# Altium schematic symbol library AG.Discrete.SchLib: 15 symbols
Pins are listed as number, name and electrical type; pins without a type are passive.

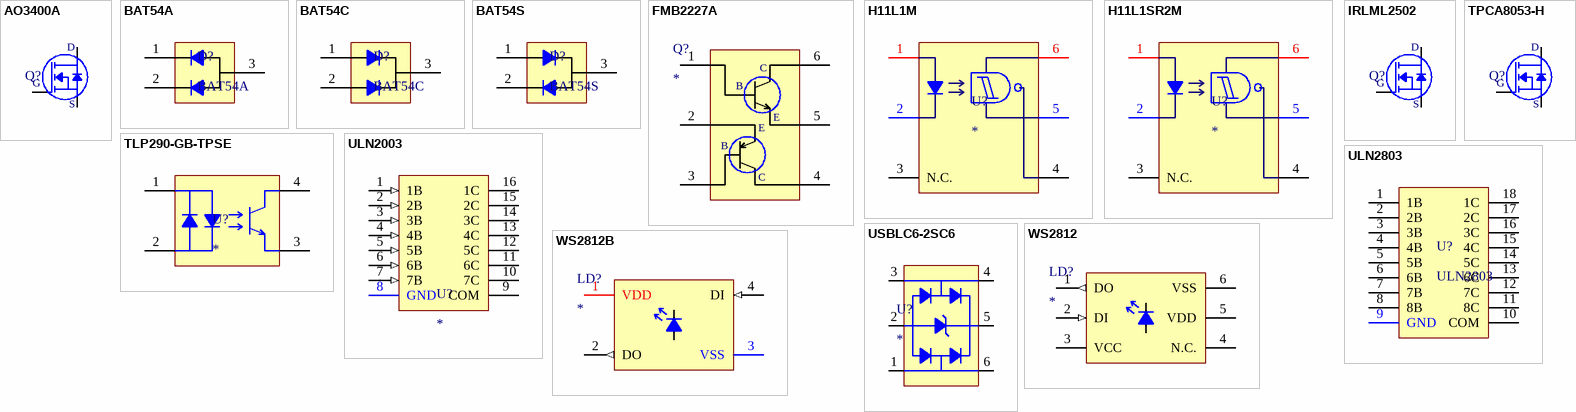
[diagram p0: symbols AO3400A to WS2812B]

## AO3400A
designator Q?
MOSFET N-CH 30V 5.7A SOT23-3L; Manufacturer: Alpha & Omega; Manufacturer Part No: AO3400A; Supplier: AliExpress; Supplier Link: https://aliexpress.ru/item/1626916488.html; Supplier Part No: 1626916488; Mounting Technology: SMT; Package: SOT-23-3L
footprint IRLML_SOT-23 (Infineon's IRLML Series Logic-Level Transistor SOT-23)
pins: 1 G, 2 S, 3 D
1 alternate drawing of the same symbol

## BAT54A
designator D?
DIODE ARRAY SCHOTTKY COMM ANODE 30V 0.2A SOT-23; PartNo: BAT54A-FDICT-ND; Manufacturer: Diodes Incorporated; DiodeConfiguration: 1 Pair Common Anode; ProductNumber: BAT54A-7-F; BaseProduct: BAT54A; Supplier: DigiKey; URL: https://www.digikey.com/en/products/detail/diodes-incorporated/BAT54A-7-F/815045; MountingTechnology: SMT; UnitPrice: $0.18; Package: SOT-23-3
footprint IRLML_SOT-23 (Infineon's IRLML Series Logic-Level Transistor SOT-23)
pins: 1 A1, 2 A2, 3 C

## BAT54C
designator D?
DIODE ARRAY SCHOTTKY COMM CATH 30V 0.2A SOT-23; PartNo: BAT54C-FDICT-ND; Manufacturer: Diodes Incorporated; DiodeConfiguration: 1 Pair Common Cathode; ProductNumber: BAT54C-7-F; BaseProduct: BAT54C; Supplier: DigiKey; URL: https://www.digikey.com/en/products/detail/diodes-incorporated/BAT54C-7-F/717701; MountingTechnology: SMT; UnitPrice: $0.18; Package: SOT-23-3
footprint IRLML_SOT-23 (Infineon's IRLML Series Logic-Level Transistor SOT-23)
pins: 1 A1, 2 A2, 3 C

## BAT54S
designator D?
DIODE ARRAY SCHOTTKY SERIES 30V 0.2A SOT-23; Manufacturer: Diodes Incorporated; DiodeConfiguration: 1 Pair Series; BaseProduct: BAT54S; Supplier: DigiKey; MountingTechnology: SMT; UnitPrice: $0.18; Package: SOT-23-3
footprint IRLML_SOT-23 (Infineon's IRLML Series Logic-Level Transistor SOT-23)
pins: 1 A1, 2 A2, 3 C
1 alternate drawing of the same symbol

## FMB2227A
designator Q?
TRANS NPN/PNP 30V 0.5A 6SSOT; Manufacturer: ON Semiconductor; Collector Current: 500mA; DC Current Gain: 30; Supplier: DigiKey; Supplier Link: https://www.digikey.com/en/products/detail/on-semiconductor/FMB2227A/1049255; Supplier Part No: FMB2227ACT-ND; Package: SOT-23-6 Thin; Mounting Technology: SMT; Collector-Emitter Breakdown Voltage: 30V
pins: 1 Base, 1, 2 Emmiter, 2, 3 Base, 3, 4 Collector, 4, 5 Emmiter, 5, 6 Collector, 6
text: C; B; E

## H11L1M
designator U?
OPTOISO 4.17KV OPN COLL 6DIP; Manufacturer: ON Semiconductor (Fairchild); Manufacturer Product Number: H11L1M; Base Product: H11L; Supplier URL: https://www.digikey.com/en/products/detail/on-semiconductor/H11L1M/284866; Supplier Unit Price: $0.90; Supplier Part No: H11L1-MQT-ND; Operating Temperature: -40°C ~ 85°C; Mounting Type: SMT; Package: DIP-6; Supplier Package: Tube
pins: 1 A, 2 C, 3 N.C., 4 OUT, 5 GND (power), 6 VCC (power)

## H11L1SR2M
designator U?
OPTOISO 4.17KV OPN COLL SMD-6; Manufacturer: ON Semiconductor; Manufacturer Part No: H11L1SR2M; Supplier URL: https://www.digikey.com/en/products/detail/on-semiconductor/H11L1SR2M/458856; Supplier Part No: H11L1SR2MCT-ND; Mounting Type: SMT; Package: SMD-6; Supplier: DigiKey; Alternative Supplier: Chipdip; Alternative Supplier Link: https://www.chipdip.by/product/h11l1sr2m; Alternative Supplier Part No: 753715628
footprint H11L1SR2M_SMD-6 (SMD-6 OPTOISO)
pins: 1 A, 2 C, 3 N.C., 4 OUT, 5 GND (power), 6 VCC (power)

## IRLML2502
designator Q?
MOSFET N-CH 20V 4.2A SOT23; Manufacturer: Infineon; Manufacturer Part No: IRLML2502TRPBF; Supplier: DigiKey; Supplier Link: https://www.digikey.com/en/products/detail/infineon-technologies/IRLML2502TRPBF/811439; Supplier Part No: IRLML2502TRPBFCT-ND; Mounting Technology: SMT; Package: SOT-23; Alternative Supplier: Chipdip; Alternative Supplier Part No: 517112745; Alternative Supplier Link: https://www.chipdip.by/product/irlml2502tr
footprint IRLML_SOT-23 (Infineon's IRLML Series Logic-Level Transistor SOT-23)
pins: 1 G, 2 S, 3 D
1 alternate drawing of the same symbol

## TLP290-GB-TPSE
designator U?
OPTOISOLATOR 3.75KV TRANS 4-SO; URL: https://www.digikey.co.uk/product-detail/en/toshiba-semiconductor-and-storage/TLP290-GB-TPSE/TLP290-GB-TPSECT-ND/4562941; MountingTechnology: SMT
footprint SO-4-SOIC127P600-8N (SO-4 Footprint for TLP290)
pins: 1, 2, 3, 4

## TPCA8053-H
designator Q?
MOSFET N-CH 60V 15A; Manufacturer: Toshiba; Manufacturer Part No: *; Supplier: *; Supplier Link: *; Supplier Part No: *; Mounting Technology: SMT; Package: SO-8FL; Alternative Supplier: *; Alternative Supplier Part No: *; Alternative Supplier Link: *; Datasheet Link: http://www.farnell.com/datasheets/1339268.pdf
footprint DFN-8 (DFN 8 Leads 5x6mm Reflow)
pins: 1 G, 2 S, 3 D
1 alternate drawing of the same symbol

## ULN2003
designator U?
TRANS 7-NPN DARL 50V 0.5A; Manufacturer: Texas Instruments; Manufacturer Part No: ULN2003AD; Alternative Supplier: Chipdip; Alternative Supplier Link: https://www.chipdip.by/product/uln2003ad; Alternative Supplier Part No: 36972; Mounting Technology: SMT; Supplier: DigiKey; Supplier Link: https://www.digikey.com/en/products/detail/texas-instruments/ULN2003AD/277623; Supplier Part No: 296-1368-5-ND
footprint TI_SOIC-16 (D_R-PDSO-G16)
pins: 1 1B (in), 2 2B (in), 3 3B (in), 4 4B (in), 5 5B (in), 6 6B (in), 7 7B (in), 8 GND (power), 9 COM, 10 7C (oc), 11 6C (oc), 12 5C (oc), 13 4C (oc), 14 3C (oc), 15 2C (oc), 16 1C (oc)

## ULN2803
designator U?
TRANS 8-NPN DARL 50V 0.5A; Manufacturer: Texas Instruments; ProductNumber: ULN2803ADWR; BaseProduct: ULN2803; URL: https://www.digikey.com/en/products/detail/texas-instruments/ULN2803ADWR/598097; Supplier: DigiKey; UnitPrice: $1.29; MountingTechnology: SMT
footprint Model Name (Footprint not found)
pins: 1 1B, 2 2B, 3 3B, 4 4B, 5 5B, 6 6B, 7 7B, 8 8B, 9 GND (power), 10 COM, 11 8C, 12 7C, 13 6C, 14 5C, 15 4C, 16 3C, 17 2C, 18 1C

## USBLC6-2SC6
designator U?
Low Capacitance USB ESD Protection; Manufacturer: STMicroelectronics; Product Name: USBLC6-2SC6; Supplier Link: https://www.chipdip.by/product/usblc6-2sc6; Supplier Part No: 9000039051; Supplier: Chipdip; Case: SOT-23-6; Mounting Type: SMT
footprint TI_SOT-23-6
pins: 1, 2, 3, 4, 5, 6

## WS2812
designator LD?
pins: 1 DO (out), 2 DI (in), 3 VCC (power), 4 N.C. (power), 5 VDD (power), 6 VSS (power)

## WS2812B
designator LD?
ADDRESS LED DISCRETE SERIAL RGB; Manufacturer: Worldsemi
footprint WS2812B
pins: 1 VDD (power), 2 DO (out), 3 VSS (power), 4 DI (in)